# Altium footprint library LASER_LIB_PCB.PcbLib: 46 footprints (part 2 of 3)
Each footprint in its own frame and in the unit in brackets; x right, y up, seen from the top. Pads: shape width x height; smd on the part's side, far side on the other; paste and mask are expansions set on the pad; w line width, h text height; cw(c..) or ccw(c..) is an arc to the next point about the centre after c.
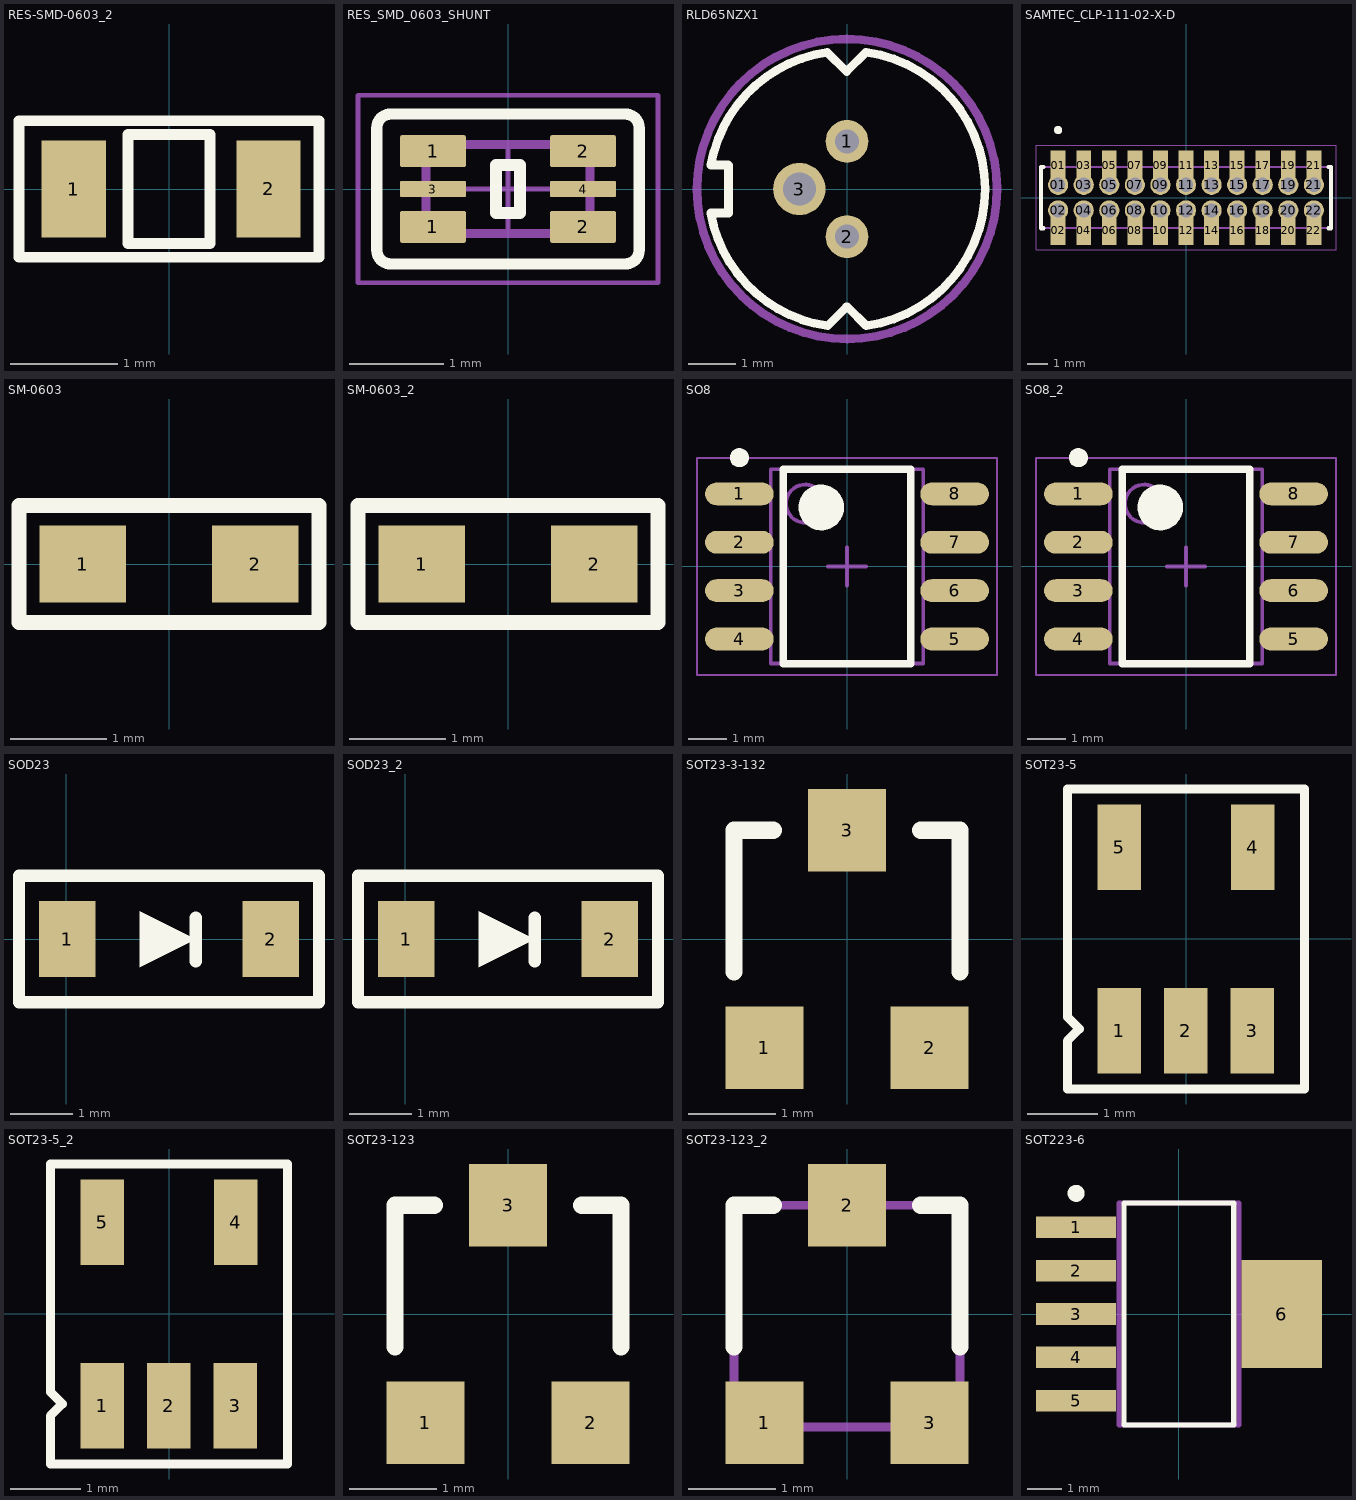
[diagram p1: the footprints below, top view; thin cyan lines are the x and y axes]

## RES-SMD-0603_2 [mm]
pads (2):
  rect 0.6x0.9 smd: 1(-0.889,0) 2(0.927,0)
Top Overlay:
  lines w0.1: -1.397,-0.635 -1.397,0.635 1.397,0.635 1.397,-0.635 0.889,-0.635 -1.397,-0.635 ; -0.381,-0.508 -0.381,0.508 0.381,0.508 0.381,-0.508 -0.381,-0.508
3D body "User Library-SMD RESISTOR-1 (3).step": height 0.43, standoff -0.03, extent -0.8,-0.4 0.8,0.4

## RES_SMD_0603_SHUNT [mm]
pads (6):
  rrect10% 0.7x0.34 smd: 1(-0.8,-0.405) 1(-0.8,0.405) 2(0.8,-0.405) 2(0.8,0.405)
  rrect10% 0.7x0.17 smd: 3(-0.8,0) 4(0.8,0)
Top Overlay:
  lines w0.12: -1.4,-0.65 ccw(c-1.25,-0.65) -1.25,-0.8 1.25,-0.8 ccw(c1.25,-0.65) 1.4,-0.65 1.4,0.65 ccw(c1.25,0.65) 1.25,0.8 -1.25,0.8 ccw(c-1.25,0.65) -1.4,0.65 -1.4,-0.65
  lines w0.127: -0.127,-0.254 0.127,-0.254 0.127,0.254 -0.127,0.254 -0.127,-0.254
Top 3D Body:
  lines w0.1: -0.875,-0.475 -0.875,0.475 0.875,0.475 0.875,-0.475 -0.875,-0.475
Top Courtyard:
  lines w0.05: -0.475,0 0.475,0 ; 0,-0.475 0,0.475 ; -1.6,-1 -1.6,1 1.6,1 1.6,-1 -1.6,-1
3D body "User Library-SMD RESISTOR-1 (3).step": height 0.43, standoff -0.03, extent -0.8,-0.4 0.8,0.4

## RLD65NZX1 [mm]
pads (3):
  round 0.9 hole 0.5 mask+0.102: 1(0,1) 2(0,-1)
  round 1.1 hole 0.7 mask+0.102: 3(-1,0)
Top Overlay:
  lines w0.18: -2.864,-0.506 ccw(c-0.004,-0.002) -0.409,-2.877 -0.407,-2.877 -0.01,-2.48 0.009,-2.48 0.404,-2.875 ccw(c0,0) 0.404,2.875 ; -2.859,-0.504 -2.49,-0.504 -2.49,0.498 ; -2.496,0.504 -2.859,0.504 cw(c0,0) -0.413,2.874 ; -0.413,2.871 -0.009,2.466 0.398,2.873
Top Courtyard:
  lines w0.18: 3.152,0 cw(c0,0) 3.152,0.01
3D body "Laser diode ML101J25.SLDPRT": height 3.7, standoff -6.8, extent -2.759,-2.777 2.796,2.773

## SAMTEC_CLP-111-02-X-D [mm]
height 2.37
pads (44):
  round 1 hole 0.7 mask+0.05: 01(-6.35,0.635) 02(-6.35,-0.635) 03(-5.08,0.635) 04(-5.08,-0.635) 05(-3.81,0.635) 06(-3.81,-0.635) 07(-2.54,0.635) 08(-2.54,-0.635) 09(-1.27,0.635) 10(-1.27,-0.635) 11(0,0.635) 12(0,-0.635) 13(1.27,0.635) 14(1.27,-0.635) 15(2.54,0.635) 16(2.54,-0.635) 17(3.81,0.635) 18(3.81,-0.635) 19(5.08,0.635) 20(5.08,-0.635) 21(6.35,0.635) 22(6.35,-0.635)
  rect 0.737x1.473 smd mask+0.05: 01(-6.35,1.613) 02(-6.35,-1.613) 03(-5.08,1.613) 04(-5.08,-1.613) 05(-3.81,1.613) 06(-3.81,-1.613) 07(-2.54,1.613) 08(-2.54,-1.613) 09(-1.27,1.613) 10(-1.27,-1.613) 11(0,1.613) 12(0,-1.613) 13(1.27,1.613) 14(1.27,-1.613) 15(2.54,1.613) 16(2.54,-1.613) 17(3.81,1.613) 18(3.81,-1.613) 19(5.08,1.613) 20(5.08,-1.613) 21(6.35,1.613) 22(6.35,-1.613)
Top Overlay:
  circle w0.2: c-6.35,3.35 r0.1
  lines w0.2: -7.07,-1.524 -7.201,-1.524 -7.201,1.524 -7.07,1.524 ; 7.071,-1.524 7.201,-1.524 7.201,1.524 7.071,1.524
Top 3D Body:
  circle w0.2: c-6.35,3.35 r0.1
  lines w0.1: -7.201,-1.524 7.201,-1.524 7.201,1.524 -7.201,1.524 -7.201,-1.524
Top Courtyard:
  lines w0.05: -7.451,-2.6 7.451,-2.6 7.451,2.6 -7.451,2.6 -7.451,-2.6
3D body "CLP-111-02-G-D.stp": height 2.16, standoff -0.13, extent -7.201,-2.159 7.201,2.159

## SM-0603 [mm]
pads (2):
  rect 0.9x0.8 smd: 1(-0.9,0) 2(0.9,0)
Top Overlay:
  lines w0.152: -1.562,-0.61 1.562,-0.61 1.562,0.61 -1.562,0.61 -1.562,-0.61
3D body "User Library-Chip Cap_MLCC_0603 (1608).STEP": height 0.5, standoff 0, extent -0.81,-0.4 0.79,0.4

## SM-0603_2 [mm]
pads (2):
  rect 0.9x0.8 smd: 1(-0.9,0) 2(0.9,0)
Top Overlay:
  lines w0.152: -1.562,-0.61 -1.562,0.61 1.562,0.61 1.562,-0.61 -1.562,-0.61
3D body "User Library-Chip Cap_MLCC_0603 (1608).STEP": height 0.5, standoff 0, extent -0.81,-0.4 0.79,0.4

## SO8 [mm]
pads (8):
  oval 1.8x0.6 smd: 1(-2.825,1.905) 2(-2.825,0.635) 3(-2.825,-0.635) 4(-2.825,-1.905) 5(2.825,-1.905) 6(2.825,-0.635) 7(2.825,0.635) 8(2.825,1.905)
Top Overlay:
  circle w0.25: c-2.825,2.855 r0.125
  circle w0.6: c-0.675,1.55 r0.3
  lines w0.2: -1.675,-2.55 -1.675,2.55 1.675,2.55 1.675,-2.55 -1.675,-2.55
Top 3D Body:
  circle w0.1: c-1.1,1.65 r0.5
  lines w0.1: -2,-2.55 -2,2.55 2,2.55 2,-2.55 -2,-2.55
Top Courtyard:
  lines w0.05: -3.937,-2.85 -3.937,2.85 3.937,2.85 3.937,-2.85 -3.937,-2.85
  lines w0.1: -0.5,0 0.5,0 ; 0,-0.5 0,0.5
3D body "CircuitWorks-SO-8 (PIC12FXXX).step": height 1.6, standoff 0, extent -2.995,-2.45 2.995,2.45

## SO8_2 [mm]
pads (8):
  oval 1.8x0.6 smd: 1(-2.825,1.905) 2(-2.825,0.635) 3(-2.825,-0.635) 4(-2.825,-1.905) 5(2.825,-1.905) 6(2.825,-0.635) 7(2.825,0.635) 8(2.825,1.905)
Top Overlay:
  circle w0.25: c-2.825,2.855 r0.125
  circle w0.6: c-0.675,1.55 r0.3
  lines w0.2: -1.675,-2.55 -1.675,2.55 1.675,2.55 1.675,-2.55 -1.675,-2.55
Top 3D Body:
  circle w0.1: c-1.1,1.65 r0.5
  lines w0.1: -2,-2.55 -2,2.55 2,2.55 2,-2.55 -2,-2.55
Top Courtyard:
  lines w0.05: -3.937,-2.85 -3.937,2.85 3.937,2.85 3.937,-2.85 -3.937,-2.85
  lines w0.1: -0.5,0 0.5,0 ; 0,-0.5 0,0.5
3D body "CircuitWorks-SO-8 (PIC12FXXX).step": height 1.6, standoff 0, extent -2.995,-2.45 2.995,2.45

## SOD23 [mm]
pads (2):
  rect 0.91x1.22 smd: 1(0.016,0) 2(3.286,0)
Top Overlay:
  region: 1.181,0.445 2.081,-0.005 1.181,-0.455
  lines w0.2: 2.081,-0.36 2.081,0.34 ; -0.762,-1.016 -0.762,0.465 -0.762,1.016 4.064,1.016 4.064,-1.016 -0.762,-1.016
3D body "sod123 v4.step": height 1.2, standoff 0, extent -0.224,-0.85 3.526,0.85

## SOD23_2 [mm]
pads (2):
  rect 0.91x1.22 smd: 1(0.016,0) 2(3.286,0)
Top Overlay:
  region: 1.181,0.445 2.081,-0.005 1.181,-0.455
  lines w0.2: 2.081,-0.36 2.081,0.34 ; -0.762,-1.016 4.064,-1.016 4.064,1.016 -0.762,1.016 -0.762,0.465 -0.762,-1.016
3D body "sod123 v4.step": height 1.2, standoff 0, extent -0.224,-0.85 3.526,0.85

## SOT23-3-132 [mm]
pads (3):
  rect 0.9x0.95 smd: 1(-0.95,-1.25) 2(0.95,-1.25) 3(0,1.25)
Top Overlay:
  lines w0.2: -1.3,-0.375 -1.3,1.25 -0.85,1.25 ; 0.85,1.25 1.3,1.25 1.3,-0.375
3D body "SW3DPS-SOT-23-DEFAULT.STEP": height 1.06, standoff -0.04, extent -1.524,-1.23 1.476,1.27

## SOT23-5 [mm]
pads (5):
  rect 0.62x1.22 smd mask+0.076: 1(-0.953,-1.31) 2(-0.003,-1.31) 3(0.947,-1.31) 4(0.952,1.31) 5(-0.953,1.31)
Top Overlay:
  lines w0.127: -1.689,-2.138 -1.689,-1.452 -1.519,-1.281 -1.689,-1.111 -1.689,2.137 1.689,2.137 1.689,-2.138 -1.689,-2.138
3D body "User Library-SOT-23-5.STEP": height 1.41, standoff -0.05, extent -1.5,-1.5 1.5,1.5

## SOT23-5_2 [mm]
pads (5):
  rect 0.62x1.22 smd mask+0.076: 1(-0.953,-1.31) 2(-0.003,-1.31) 3(0.947,-1.31) 4(0.952,1.31) 5(-0.953,1.31)
Top Overlay:
  lines w0.127: -1.689,-2.138 1.689,-2.138 1.689,2.137 -1.689,2.137 -1.689,-1.111 -1.519,-1.281 -1.689,-1.452 -1.689,-2.138
3D body "User Library-SOT-23-5.STEP": height 1.41, standoff -0.05, extent -1.5,-1.5 1.5,1.5

## SOT23-123 [mm]
pads (3):
  rect 0.9x0.95 smd: 1(-0.95,-1.25) 2(0.95,-1.25) 3(0,1.25)
Top Overlay:
  lines w0.2: -1.3,-0.375 -1.3,1.25 -0.85,1.25 ; 0.85,1.25 1.3,1.25 1.3,-0.375
3D body "SW3DPS-SOT-23-DEFAULT.STEP": height 1.06, standoff -0.04, extent -1.524,-1.23 1.476,1.27

## SOT23-123_2 [mm]
pads (3):
  rect 0.9x0.95 smd: 1(-0.95,-1.25) 2(0,1.25)
  rect 0.9x0.95 smd mask+0: 3(0.95,-1.25)
Top Overlay:
  lines w0.2: -1.3,-0.375 -1.3,1.25 -0.85,1.25 ; 0.85,1.25 1.3,1.25 1.3,-0.375
Mechanical 7:
  region: 1.225,-1.275 0.625,-1.275 0.625,-1.525 1.225,-1.525
  region: -0.625,-1.275 -1.225,-1.275 -1.225,-1.525 -0.625,-1.525
  rectangle: -0.3,1.25 0.3,1.5
  lines w0.1: -1.3,-1.3 1.3,-1.3 1.3,1.25 -1.3,1.25 -1.3,-1.3
  text ".Designator" at -1.2,0.75 h0.5
  text ".Comment" at -1.2,0.325 h0.5
3D body "SW3DPS-SOT-23-DEFAULT.STEP": height 1.06, standoff -0.04, extent -1.524,-1.23 1.476,1.27

## SOT223-6 [mm]
pads (6):
  rect 2.346x0.632 smd paste+0: 1(-3.01,2.54) 2(-3.01,1.27) 3(-3.01,0) 4(-3.01,-1.27) 5(-3.01,-2.54)
  rect 2.346x3.172 smd paste+0: 6(3.01,0)
Top Overlay:
  circle w0.25: c-3.01,3.53 r0.125
  lines w0.15: -1.603,-3.25 -1.603,3.25 1.603,3.25 1.603,-3.25 -1.603,-3.25
Top 3D Body:
  lines w0.15: -1.753,-3.25 -1.753,3.25 1.753,3.25 1.753,-3.25 -1.753,-3.25
3D body "DCQ0006A.stp": height 1.66, standoff 0, extent -3.554,-3.25 3.554,3.25